# Altium footprint library PE2_Footprints.PcbLib: 21 footprints (part 1 of 2)
Each footprint in its own frame and in the unit in brackets; x right, y up, seen from the top. Pads: shape width x height; smd on the part's side, far side on the other; paste and mask are expansions set on the pad; w line width, h text height; cw(c..) or ccw(c..) is an arc to the next point about the centre after c.
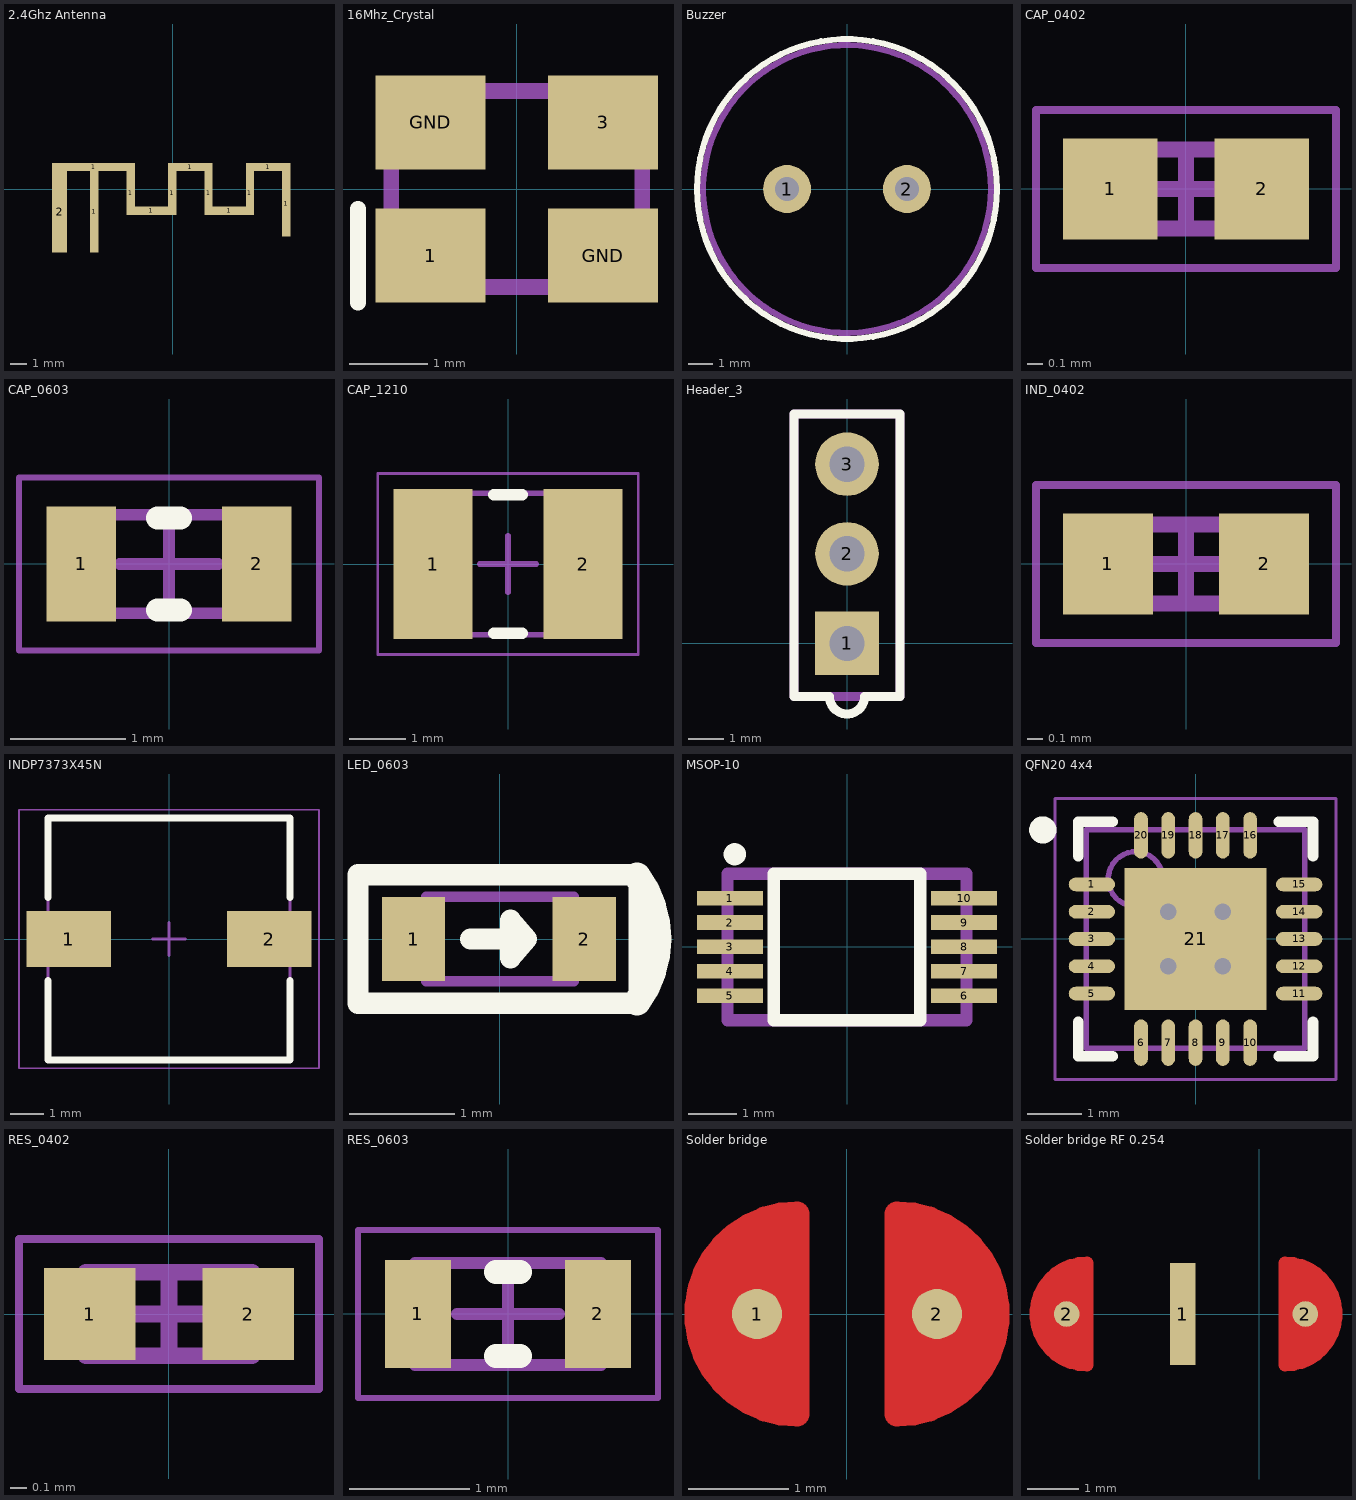
[diagram p0: the footprints below, top view; thin cyan lines are the x and y axes]

## 2.4Ghz Antenna [mm] "PCB Antenna 2.4Ghz, TI AN043"
pads (12):
  rect 5x0.5 smd mask+0.102: 1(-4.8,1.35)
  rect 0.5x4.9 smd mask+0.102: 1(-4.75,-1.35)
  rect 0.5x2.64 smd mask+0.102: 1(-2.55,-0.22) 1(-0.05,-0.22) 1(2.15,-0.22) 1(4.65,-0.22)
  rect 2x0.5 smd mask+0.102: 1(-1.3,-1.29) 1(3.4,-1.29)
  rect 2.7x0.5 smd mask+0.102: 1(1.05,1.35) 1(5.75,1.35)
  rect 0.5x3.94 smd mask+0.102: 1(6.85,-0.87)
  rect 0.9x4.9 smd mask+0.102: 2(-6.85,-1.35)

## 16Mhz_Crystal [mm] "16Mhz crystal"
height 1
pads (4):
  rect 1.4x1.2 smd: 1(-1.1,-0.85) 3(1.1,0.85) GND(-1.1,0.85) GND(1.1,-0.85)
Top Overlay:
  lines w0.2: -2.025,-1.45 -2.025,-0.25
Mechanical 1:
  lines w0.2: -1.6,-1.25 1.6,-1.25 1.6,1.25 -1.6,1.25 -1.6,-1.25
3D body "User Library-tsx-3225-1.STEP": height 0.6, standoff 0, extent -1.6,-1.25 1.6,1.25

## Buzzer [mm]
pads (2):
  round 2 hole 1: 1(-2.5,0) 2(2.5,0)
Top Overlay:
  circle w0.254: c0,0 r6.254
Mechanical 1:
  circle w0.254: c0,0 r6
3D body "User Library-buzzer12.STEP": height 7.5, standoff -2, extent -6,-5.993 6,5.993

## CAP_0402 [mm] "Chip Capacitor, 2-Leads, Body 1,00x0,50mm, IPC Medium Density"
height 0.35
pads (2):
  rect 0.6x0.64 smd: 1(-0.48,0) 2(0.48,0)
Mechanical 13:
  lines w0.1: -0.5,-0.25 0.5,-0.25 0.5,0.25 -0.5,0.25 -0.5,-0.25
Mechanical 15:
  lines w0.05: -0.95,-0.5 0.95,-0.5 0.95,0.5 -0.95,0.5 -0.95,-0.5
  lines w0.1: -0.25,0 0.25,0 ; 0,-0.25 0,0.25
3D body: height 0.35, standoff 0, extent 0.3,-0.25 0.5,0.25
3D body: height 0.35, standoff 0, extent -0.5,-0.25 -0.3,0.25
3D body: height 0.35, standoff 0, extent -0.3,-0.25 0.3,0.25

## CAP_0603 [mm] "Chip Capacitor, 2-Leads, Body 1,55x0,85mm, IPC Medium Density"
height 0.45
pads (2):
  rect 0.6x1 smd: 1(-0.76,0) 2(0.76,0)
Top Overlay:
  lines w0.2: -0.1,-0.4 0.1,-0.4 ; -0.1,0.4 0.1,0.4
Mechanical 13:
  lines w0.1: -0.775,-0.425 -0.775,0.425 0.775,0.425 0.775,-0.425 -0.775,-0.425
Mechanical 15:
  lines w0.05: -1.3,-0.75 -1.3,0.75 1.3,0.75 1.3,-0.75 -1.3,-0.75
  lines w0.1: -0.425,0 0.425,0 ; 0,-0.425 0,0.425
3D body: height 0.45, standoff 0, extent -0.575,-0.425 0.575,0.425
3D body: height 0.45, standoff 0, extent -0.775,-0.425 -0.575,0.425
3D body: height 0.45, standoff 0, extent 0.575,-0.425 0.775,0.425

## CAP_1210 [mm]
height 0.55
pads (2):
  rect 1.4x2.65 smd: 1(-1.325,0) 2(1.325,0)
Top Overlay:
  lines w0.2: -0.25,-1.225 0.25,-1.225 ; -0.25,1.225 0.25,1.225
Mechanical 13:
  lines w0.1: -1.6,-1.25 1.6,-1.25 1.6,1.25 -1.6,1.25 -1.6,-1.25
Mechanical 15:
  lines w0.05: -2.3,-1.6 2.3,-1.6 2.3,1.6 -2.3,1.6 -2.3,-1.6
  lines w0.1: -0.5,0 0.5,0 ; 0,-0.5 0,0.5
3D body "CAP_1210.step": height 0.55, standoff 0, extent -1.6,-1.25 1.6,1.25

## Header_3 [mm]
pads (3):
  rect 1.8x1.8 hole 1: 1(0,0)
  round 1.8 hole 1: 2(0,2.54) 3(0,5.08)
Top Overlay:
  lines w0.254: -1.5,-1.5 -1.5,6.5 1.5,6.5 1.5,-1.5 0.5,-1.5 cw(c0,-1.5) -0.5,-1.5 -1.5,-1.5
Mechanical 1:
  lines w0.254: -1.5,-1.5 1.5,-1.5 1.5,6.5 -1.5,6.5 -1.5,0 -1.5,-1.5

## IND_0402 [mm] "Chip Inductor, 2-Leads, Body 1,00x0,50mm, IPC Medium Density"
height 0.35
pads (2):
  rect 0.57x0.64 smd: 1(-0.495,0) 2(0.495,0)
Mechanical 13:
  lines w0.1: -0.5,-0.25 0.5,-0.25 0.5,0.25 -0.5,0.25 -0.5,-0.25
Mechanical 15:
  lines w0.05: -0.95,-0.5 0.95,-0.5 0.95,0.5 -0.95,0.5 -0.95,-0.5
  lines w0.1: -0.25,0 0.25,0 ; 0,-0.25 0,0.25
3D body "IND_0402.step": height 0.35, standoff 0, extent -0.5,-0.25 0.5,0.25

## INDP7373X45N [mm] "Precision Wire Wound Inductor, 2-Leads, Body 7,30x7,30mm, IPC Medium Density"
height 4.5
pads (2):
  rect 2.55x1.7 smd: 1(-3.025,0) 2(3.025,0)
Top Overlay:
  lines w0.2: -3.65,-1.25 -3.65,-3.65 3.65,-3.65 3.65,-1.25 ; -3.65,1.25 -3.65,3.65 3.65,3.65 3.65,1.25
Mechanical 13:
  lines w0.1: -3.65,-3.65 -3.65,3.65 3.65,3.65 3.65,-3.65 -3.65,-3.65
Mechanical 15:
  lines w0.05: -4.525,-3.9 -4.525,3.9 4.525,3.9 4.525,-3.9 -4.525,-3.9
  lines w0.1: -0.5,0 0.5,0 ; 0,-0.5 0,0.5
3D body "INDP7373X45N.step": height 4.6, standoff 0, extent -3.75,-3.65 3.75,3.65

## LED_0603 [mm]
pads (2):
  rect 0.6x0.8 smd: 1(-0.819,0) 2(0.8,0)
Top Overlay:
  lines w0.2: -0.279,0 0.254,0 ; 0.254,0 0.102,-0.178 0.102,0.178 0.254,0 ; -1.346,-0.61 -1.346,0.61 1.321,0.61 1.321,-0.61 -1.346,-0.61
  lines w0.254: 1.3,-0.6 ccw(c0.5,0) 1.3,0.6
Mechanical 13:
  lines w0.1: -0.7,-0.4 -0.7,0.4 0.7,0.4 0.7,-0.4 -0.7,-0.4
3D body "User Library-LED SMD0603.STEP": height 0.68, standoff 0, extent -0.825,-0.35 0.825,0.375

## MSOP-10 [mm] "USB to serial"
pads (10):
  rect 1.35x0.3 smd: 1(-2.4,1) 2(-2.4,0.5) 3(-2.4,0) 4(-2.4,-0.5) 5(-2.4,-1) 6(2.4,-1) 7(2.4,-0.5) 8(2.4,0) 9(2.4,0.5) 10(2.4,1)
Top Overlay:
  circle w0.254: c-2.3,1.9 r0.1
  lines w0.254: -1.5,-1.5 -1.5,1.5 1.5,1.5 1.5,-1.5 -1.5,-1.5
Mechanical 1:
  lines w0.254: -2.45,-1.5 2.45,-1.5 2.45,1.5 -2.45,1.5 -2.45,-1.5
  text ".Designator" at -2.346,2.462 h1.52
3D body "User Library-msop-10.STEP": height 1.15, standoff 0, extent -2.45,-1.5 2.45,1.5

## QFN20 4x4 [mm] "QFN, 20-Leads, Body 4,00x4,00mm, Pitch 0,50mm, Thermal Pad 2,60x2,60mm, IPC Medium Density"
height 0.95
pads (21):
  oval 0.85x0.25 smd: 1(-1.9,1) 2(-1.9,0.5) 3(-1.9,0) 4(-1.9,-0.5) 5(-1.9,-1) 11(1.9,-1) 12(1.9,-0.5) 13(1.9,0) 14(1.9,0.5) 15(1.9,1)
  oval 0.25x0.85 smd: 6(-1,-1.9) 7(-0.5,-1.9) 8(0,-1.9) 9(0.5,-1.9) 10(1,-1.9) 16(1,1.9) 17(0.5,1.9) 18(0,1.9) 19(-0.5,1.9) 20(-1,1.9)
  rect 2.6x2.6 smd: 21(0,0)
via -0.5,0.5 diameter 0.6 hole 0.3
via 0.5,0.5 diameter 0.6 hole 0.3
via 0.5,-0.5 diameter 0.6 hole 0.3
via -0.5,-0.5 diameter 0.6 hole 0.3
Top Overlay:
  circle w0.25: c-2.8,2 r0.125
  lines w0.2: -2.15,-1.525 -2.15,-2.15 -1.525,-2.15 ; -2.15,1.525 -2.15,2.15 -1.525,2.15 ; 1.525,-2.15 2.15,-2.15 2.15,-1.525 ; 1.525,2.15 2.15,2.15 2.15,1.525
Mechanical 13:
  circle w0.1: c-1.1,1.1 r0.5
  lines w0.1: -2,-2 2,-2 2,2 -2,2 -2,-2
Mechanical 15:
  lines w0.05: -2.575,-2.575 2.575,-2.575 2.575,2.575 -2.575,2.575 -2.575,-2.575
  lines w0.1: -0.5,0 0.5,0 ; 0,-0.5 0,0.5
3D body "QFN20 4x4.step": height 0.95, standoff 0, extent -2.02,-2.02 2.02,2.02

## RES_0402 [mm] "Chip Resistor, 2-Leads, Body 1,00x0,50mm, IPC Medium Density"
height 0.35
pads (2):
  rect 0.55x0.55 smd: 1(-0.475,0) 2(0.475,0)
Mechanical 13:
  lines w0.1: -0.5,-0.25 -0.5,0.25 0.5,0.25 0.5,-0.25 -0.5,-0.25
Mechanical 15:
  lines w0.05: -0.9,-0.45 -0.9,0.45 0.9,0.45 0.9,-0.45 -0.9,-0.45
  lines w0.1: -0.25,0 0.25,0 ; 0,-0.25 0,0.25
3D body "RESC1005X04N.step": height 0.35, standoff 0, extent -0.5,-0.25 0.5,0.25

## RES_0603 [mm] "Chip Resistor, 2-Leads, Body 1,55x0,85mm, IPC Medium Density"
height 0.45
pads (2):
  rect 0.55x0.9 smd: 1(-0.75,0) 2(0.75,0)
Top Overlay:
  lines w0.2: -0.1,-0.35 0.1,-0.35 ; -0.1,0.35 0.1,0.35
Mechanical 13:
  lines w0.1: -0.775,-0.425 0.775,-0.425 0.775,0.425 -0.775,0.425 -0.775,-0.425
Mechanical 15:
  lines w0.05: -1.25,-0.7 1.25,-0.7 1.25,0.7 -1.25,0.7 -1.25,-0.7
  lines w0.1: -0.425,0 0.425,0 ; 0,-0.425 0,0.425
3D body: height 0.45, standoff 0, extent 0.575,-0.425 0.775,0.425
3D body: height 0.45, standoff 0, extent -0.775,-0.425 -0.575,0.425
3D body: height 0.45, standoff 0, extent -0.575,-0.425 0.575,0.425

## Solder bridge [mm]
pads (2):
  round 0.5 smd mask+0: 1(-0.9,0) 2(0.9,0)
Top Layer:
  region: -0.5,-1 -0.5,1 -0.6,0.9 -1,0.9 -1.5,0.4 -1.5,-0.4 -1,-0.9
  region: 0.5,1 0.5,-1 0.6,-0.9 1,-0.9 1.5,-0.4 1.5,0.4 1,0.9
  lines w0.254: -0.5,-1 cw(c-0.5,0) -0.5,1 -0.5,-1 ; 0.5,-1 ccw(c0.5,0) 0.5,1 0.5,-1
Top Solder:
  circle w1.5: c-0.5,0 r0.45
  circle w1.5: c0.5,0 r0.45
  lines w0.4: -0.5,-1 0.5,-1 ; -0.5,1 0.5,1

## Solder bridge RF 0.254 [mm]
pads (3):
  rect 0.5x2 smd: 1(-1.5,0)
  round 0.5 smd mask+0: 2(-3.775,0) 2(0.9,0)
Top Layer:
  region: -3.375,-1 -3.375,1 -3.475,0.9 -3.875,0.9 -4.375,0.4 -4.375,-0.4 -3.875,-0.9
  region: 0.5,1 0.5,-1 0.6,-0.9 1,-0.9 1.5,-0.4 1.5,0.4 1,0.9
  lines w0.254: -3.375,-1 cw(c-3.375,0) -3.375,1 -3.375,-1 ; 0.5,-1 ccw(c0.5,0) 0.5,1 0.5,-1
Top Solder:
  circle w1.5: c-3.375,0 r0.45
  circle w1.5: c0.5,0 r0.45
  region: -1.575,1.1 -3.075,1.1 -3.075,-1.1 -1.575,-1.1
  rectangle: -1.3,-1.1 0.2,1.1